# EAGLE library part TXB0104 (library Tari)
Low-power 4-bit bidirectional level translator. Max 5uA input current implies very low drive strength. Connected pull-up/pull-down resistors should be no less than 50k.
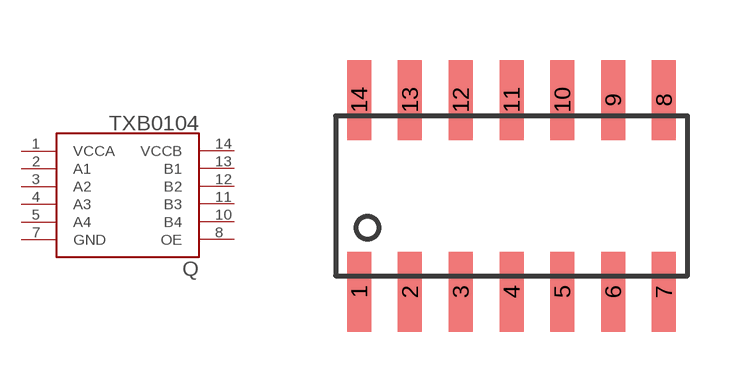
[diagram p7: symbol with the pads of D-R-PDSO-G14; footprint D-R-PDSO-G14]

Designator prefix Q

## TXB0104  [D-R-PDSO-G14]
1  VCCA
2  A1
3  A2
4  A3
5  A4
7  GND
8  OE
10  B4
11  B3
12  B2
13  B1
14  VCCB

## Footprint D-R-PDSO-G14 (pad centres in mm)
TI SOIC-14
smd 0.6 x 2: 1 -3.81,-2.4; 2 -2.54,-2.4; 3 -1.27,-2.4; 4 0,-2.4; 5 1.27,-2.4; 6 2.54,-2.4; 7 3.81,-2.4; 8 3.81,2.4; 9 2.54,2.4; 10 1.27,2.4; 11 0,2.4; 12 -1.27,2.4; 13 -2.54,2.4; 14 -3.81,2.4